# Altium footprint library PcbLib1.PcbLib: 60 footprints (part 4 of 4)
Each footprint in its own frame and in the unit in brackets; x right, y up, seen from the top. Pads: shape width x height; smd on the part's side, far side on the other; paste and mask are expansions set on the pad; w line width, h text height; cw(c..) or ccw(c..) is an arc to the next point about the centre after c.
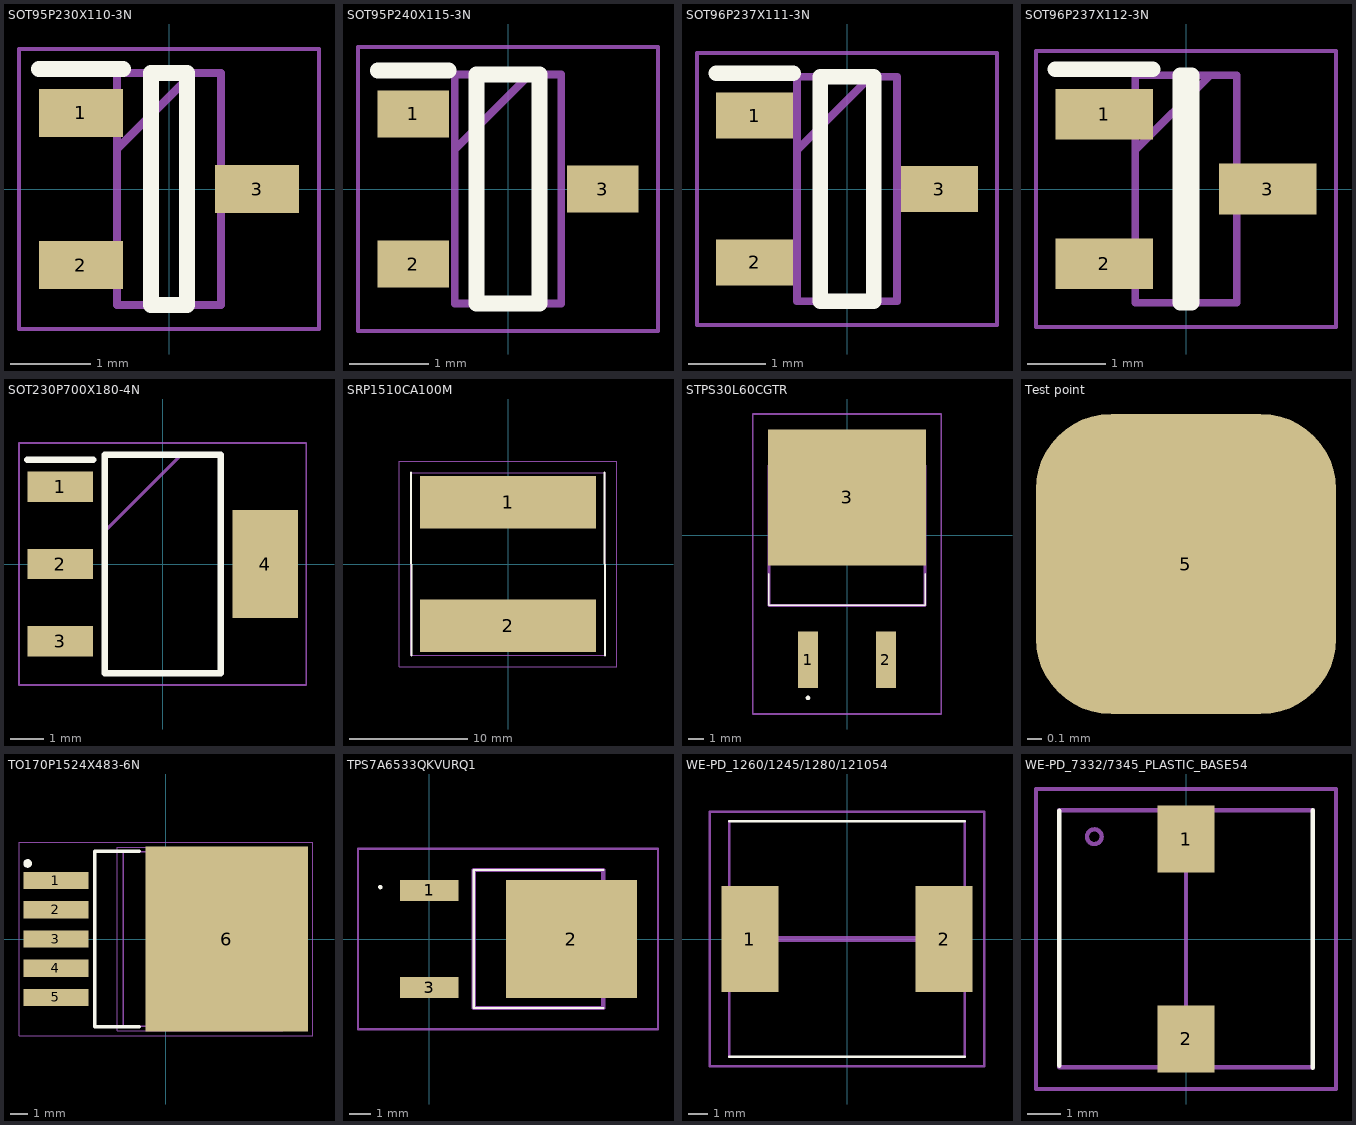
[diagram p3: the footprints below, top view; thin cyan lines are the x and y axes]

## SOT95P230X110-3N [mm]
pads (3):
  rect 1.05x0.6 smd: 1(-1.1,0.95) 2(-1.1,-0.95) 3(1.1,0)
Top Overlay:
  lines w0.2: -1.625,1.5 -0.575,1.5 ; -0.225,-1.45 0.225,-1.45 0.225,1.45 -0.225,1.45 -0.225,-1.45
Mechanical 13:
  lines w0.1: -0.65,0.5 0.3,1.45 ; -0.65,-1.45 0.65,-1.45 0.65,1.45 -0.65,1.45 -0.65,-1.45
Mechanical 15:
  lines w0.05: -1.875,-1.75 1.875,-1.75 1.875,1.75 -1.875,1.75 -1.875,-1.75
3D body "BZX84C12.stp": height 1.1, standoff 0, extent -1.15,-1.45 1.15,1.45

## SOT95P240X115-3N [mm]
pads (3):
  rect 0.9x0.6 smd: 1(-1.2,0.95) 2(-1.2,-0.95) 3(1.2,0)
Top Overlay:
  lines w0.2: -1.65,1.5 -0.75,1.5 ; -0.4,-1.45 0.4,-1.45 0.4,1.45 -0.4,1.45 -0.4,-1.45
Mechanical 13:
  lines w0.1: -0.675,0.5 0.275,1.45 ; -0.675,-1.45 0.675,-1.45 0.675,1.45 -0.675,1.45 -0.675,-1.45
Mechanical 15:
  lines w0.05: -1.9,-1.8 1.9,-1.8 1.9,1.8 -1.9,1.8 -1.9,-1.8
3D body "BZX84C12VLFHT116.stp": height 1.15, standoff 0, extent -1.2,-1.45 1.2,1.45

## SOT96P237X111-3N [mm]
pads (3):
  rect 1x0.6 smd: 1(-1.2,0.955) 2(-1.2,-0.955) 3(1.2,0)
Top Overlay:
  lines w0.2: -1.7,1.505 -0.7,1.505 ; -0.35,-1.46 0.35,-1.46 0.35,1.46 -0.35,1.46 -0.35,-1.46
Mechanical 13:
  lines w0.1: -0.65,0.505 0.305,1.46 ; -0.65,-1.46 0.65,-1.46 0.65,1.46 -0.65,1.46 -0.65,-1.46
Mechanical 15:
  lines w0.05: -1.95,-1.77 1.95,-1.77 1.95,1.77 -1.95,1.77 -1.95,-1.77
3D body "BZX84C10LT1G.stp": height 1.11, standoff 0, extent -1.185,-1.46 1.185,1.46

## SOT96P237X112-3N [mm]
pads (3):
  rect 1.25x0.65 smd: 1(-1.05,0.96) 2(-1.05,-0.96) 3(1.05,0)
Top Overlay:
  lines w0.2: -1.675,1.535 -0.425,1.535 ; -0.075,-1.46 -0.075,1.46 0.075,1.46 0.075,-1.46 -0.075,-1.46
Mechanical 13:
  lines w0.1: -0.65,0.5 0.31,1.46 ; -0.65,-1.46 -0.65,1.46 0.65,1.46 0.65,-1.46 -0.65,-1.46
Mechanical 15:
  lines w0.05: -1.925,-1.77 -1.925,1.77 1.925,1.77 1.925,-1.77 -1.925,-1.77
3D body "MCP100T-315I_TT.stp": height 1.12, standoff 0, extent -1.185,-1.46 1.185,1.46

## SOT230P700X180-4N [mm]
pads (4):
  rect 1.95x0.9 smd: 1(-3.05,2.3) 2(-3.05,0) 3(-3.05,-2.3)
  rect 1.95x3.2 smd: 4(3.05,0)
Top Overlay:
  lines w0.2: -4.025,3.1 -2.075,3.1 ; -1.725,-3.25 -1.725,3.25 1.725,3.25 1.725,-3.25 -1.725,-3.25
Mechanical 13:
  lines w0.1: -1.75,0.95 0.55,3.25 ; -1.75,-3.25 -1.75,3.25 1.75,3.25 1.75,-3.25 -1.75,-3.25
Mechanical 15:
  lines w0.05: -4.275,-3.6 -4.275,3.6 4.275,3.6 4.275,-3.6 -4.275,-3.6
3D body "TC1262-3.3VDB.stp": height 1.8, standoff 0, extent -3.5,-3.25 3.5,3.25

## SRP1510CA100M [mm]
pads (2):
  rect 15x4.5 smd: 1(0,5.25) 2(0,-5.25)
Top Overlay:
  lines w0.2: -8.25,7.75 -8.2,-7.75 ; 8.2,7.75 8.25,-7.75
Mechanical 13:
  lines w0.1: -8.25,-7.75 -8.25,7.75 8.25,7.75 8.25,-7.75 -8.25,-7.75
Mechanical 15:
  lines w0.1: -9.25,-8.75 -9.25,8.75 9.25,8.75 9.25,-8.75 -9.25,-8.75
3D body "SRP1580CA-2R0M.stp": height 10.1, standoff 0, extent -8.25,-7.75 8.25,7.75

## STPS30L60CGTR [mm]
pads (3):
  rect 1.3x3.7 smd: 1(-2.54,-8.115) 2(2.54,-8.115)
  rect 10.3x8.9 smd: 3(0,2.485)
Top Overlay:
  lines w0.1: -5.1,-4.575 -5.1,-2.515 -5.1,-4.575 ; -5.1,-4.575 5.1,-4.575 ; -5.1,-4.575 5.1,-4.575 ; 5.1,-4.575 5.1,-2.515 5.1,-4.575
  lines w0.2: -2.6,-10.615 ccw(c-2.55,-10.615) -2.5,-10.615 ; -2.6,-10.615 cw(c-2.55,-10.615) -2.5,-10.615 ; -2.6,-10.615 ccw(c-2.55,-10.615) -2.5,-10.615
Mechanical 13:
  lines w0.2: -5.1,-4.575 5.1,-4.575 5.1,4.575 -5.1,4.575 -5.1,-4.575
Mechanical 15:
  lines w0.1: -6.15,-11.665 6.15,-11.665 6.15,7.935 -6.15,7.935 -6.15,-11.665

## Test point [mm]
pads (1):
  rrect50% 2x2 smd: 5(-7.747,-55.88)

## TO170P1524X483-6N [mm]
pads (6):
  rect 3.8x1 smd: 1(-6.4,3.4) 2(-6.4,1.7) 3(-6.4,0) 4(-6.4,-1.7) 5(-6.4,-3.4)
  rect 9.45x10.75 smd: 6(3.55,0)
Top Overlay:
  circle w0.25: c-8.05,4.4 r0.125
  lines w0.2: -1.55,-5.1 -4.15,-5.1 -4.15,5.1 -1.55,5.1
Mechanical 13:
  lines w0.1: 6.45,-5.08 -2.475,-5.08 -2.475,5.08 6.45,5.08 ; 6.45,-5.08 6.45,5.08 ; 6.45,-5.08 6.836,-5.08 7.62,-4.211 7.62,4.211 6.836,5.08 6.45,5.08
Mechanical 15:
  circle w0.05: c0,0 r0.35
  lines w0.001: -2.838,-5.335 6.812,-5.335 6.812,5.335 -2.838,5.335 -2.838,-5.335
  lines w0.05: -0.5,0 0.5,0 ; 0,-0.5 0,0.5 ; -8.55,-5.65 8.55,-5.65 8.55,5.65 -8.55,5.65 -8.55,-5.65
3D body "TL2575HV-12IKTTR.stp": height 4.44, standoff -0.15, extent -7.651,-5.08 7.62,5.08

## TPS7A6533QKVURQ1 [mm]
pads (3):
  rect 2.75x1 smd: 1(0,2.29) 3(0,-2.29)
  rect 6.15x5.55 smd: 2(6.7,0)
Top Overlay:
  lines w0.1: 8.2,-3.25 2.1,-3.25 2.1,3.25 8.2,3.25
  lines w0.104: -2.353,2.444 cw(c-2.301,2.444) -2.249,2.444 cw(c-2.301,2.444) -2.353,2.444
Mechanical 13:
  lines w0.2: 2.1,-3.25 2.1,3.25 8.2,3.25 8.2,-3.25 2.1,-3.25
Mechanical 15:
  lines w0.1: -3.353,-4.25 -3.353,4.25 10.775,4.25 10.775,-4.25 -3.353,-4.25
3D body "UA78M33CKVURG3.stp": height 2.31, standoff -0.12, extent -5.978,-3.263 4.127,3.263

## WE-PD_1260/1245/1280/121054 [mm]
pads (2):
  rect 2.9x5.4 smd: 1(-4.95,0) 2(4.95,0)
Top Overlay:
  lines w0.127: -6,-6 6,-6 ; -6,6 6,6
Mechanical 13:
  lines w0.127: -6,-6 -6,6 ; 6,-6 6,6
  lines w0.305: -4.95,0 4.95,0
Mechanical 15:
  lines w0.127: -7,-6.5 7,-6.5 7,6.5 -7,6.5 -7,-6.5

## WE-PD_7332/7345_PLASTIC_BASE54 [mm]
pads (2):
  rect 1.7x2 smd: 1(0,3) 2(0,-3)
Top Overlay:
  lines w0.127: -3.8,-3.8 -3.8,3.85 ; 3.8,-3.86 3.8,3.86
Mechanical 13:
  circle w0.127: c-2.75,3.07 r0.22
  lines w0.127: -3.8,-3.85 3.8,-3.85 ; -3.8,3.86 3.8,3.86 ; 0,-2.84 0,2.84
Mechanical 15:
  lines w0.127: -4.5,-4.5 -4.5,4.5 4.5,4.5 4.5,-4.5 -4.5,-4.5